# Altium schematic symbol library ICs.SchLib: 23 symbols
Pins are listed as number, name and electrical type; pins without a type are passive.

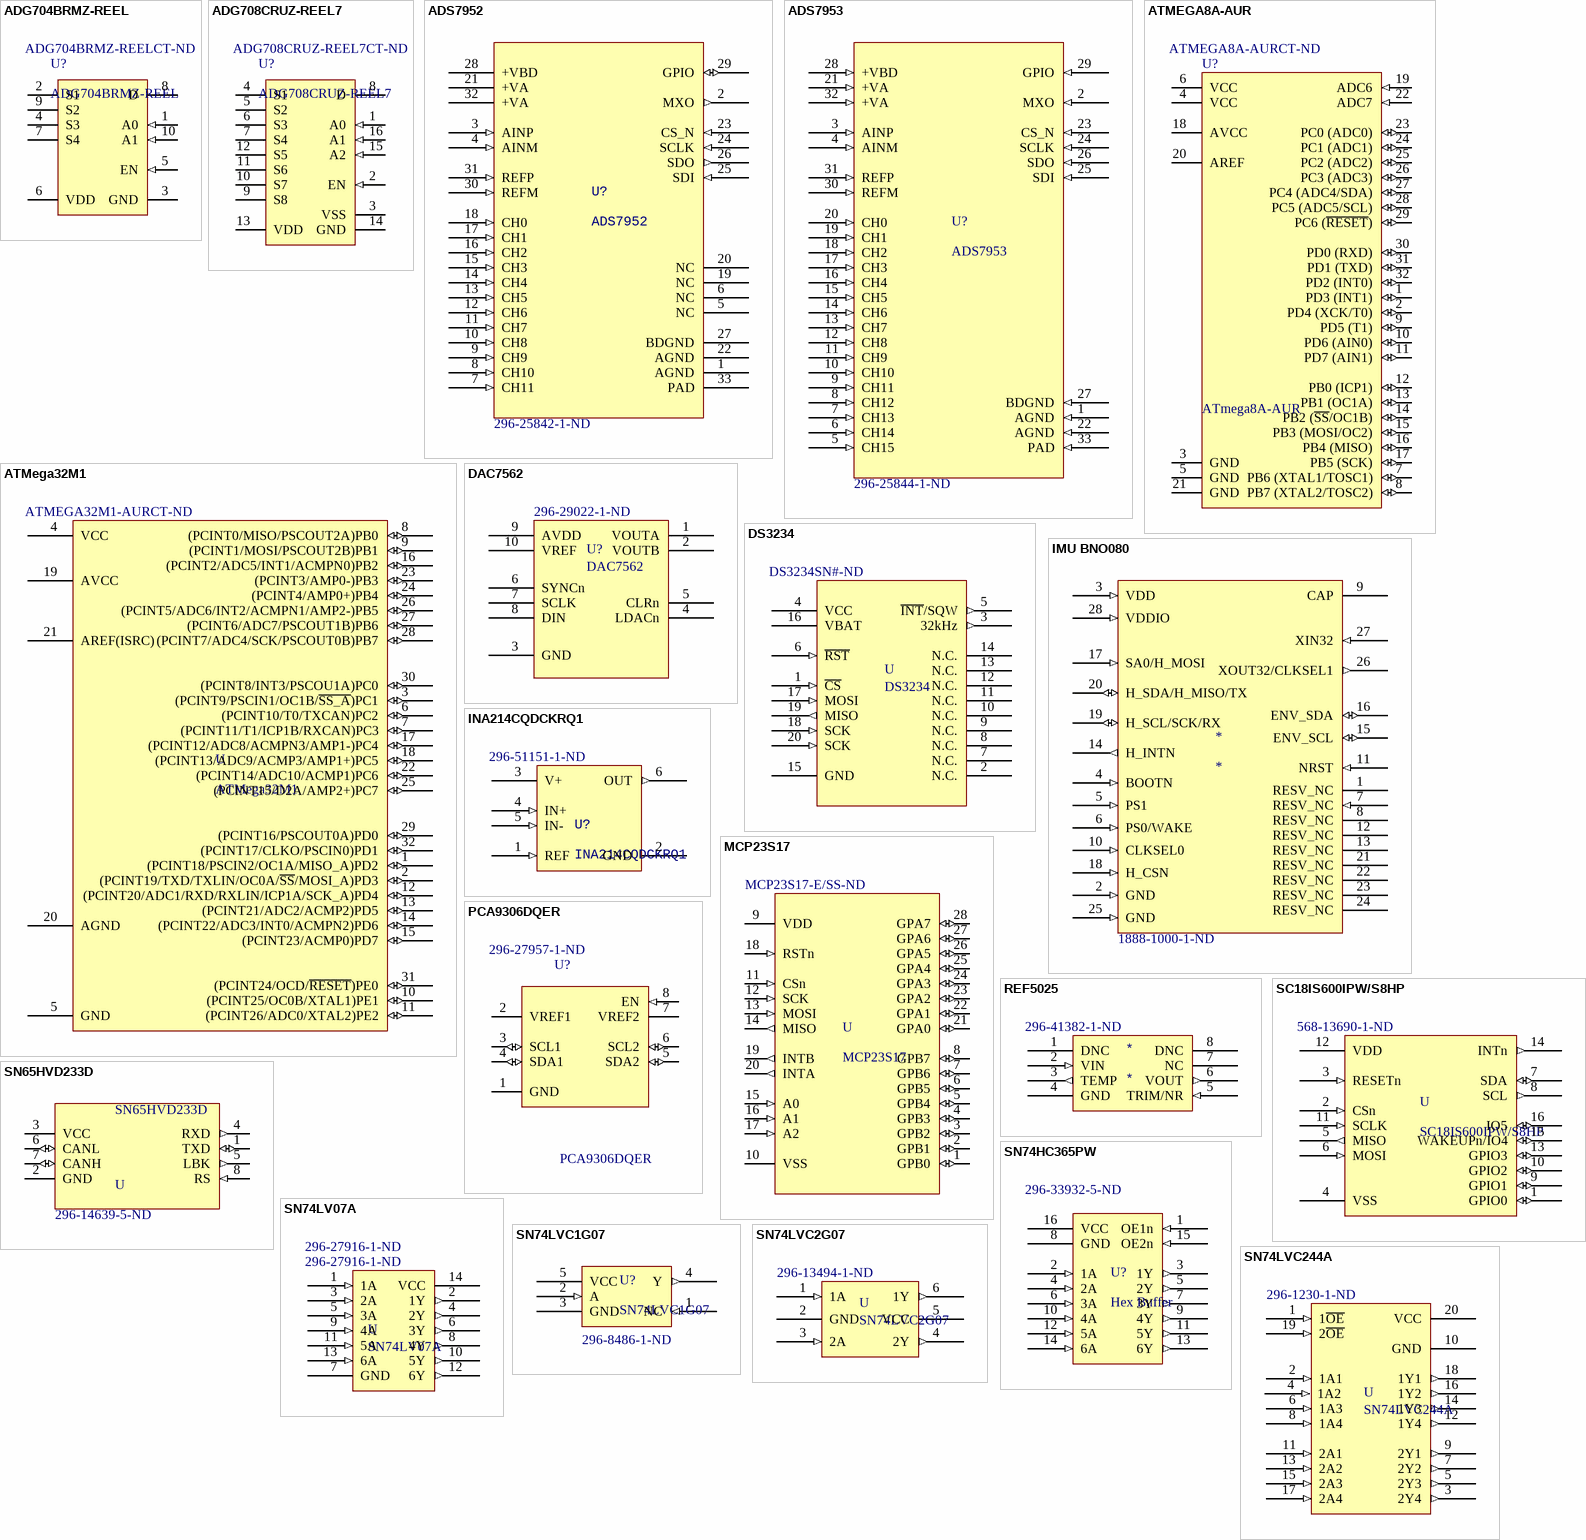
[diagram p0: symbols ADG704BRMZ-REEL to SN74LVC244A]

## ADG704BRMZ-REEL
designator U?  Supplier Part Number 1: ADG704BRMZ-REELCT-ND
CMOS Low Voltage 4 Ohm, 4-Channel Multiplexer, -40 to 85 degC, 10-pin SOP (RM-10), Reel; Manufacturer: Analog Devices; Supply V Guar Performance: Single_(+3.3V), Single_(+3V), Single_(+5V); Bandwidth (Hz): 200M; Max Analog Signal Range: 0 to Vdd; Ron (ohms): 4; PackageVersion: Aug-05; ComponentLink1Description: Manufacturer URL; ComponentLink2Description: Datasheet; ComponentLink3Description: Package Specification; Mounting Technology: Surface Mount; ComponentLink3URL: http://www.analog.com/static/imported-files/packages/PKG_PDF/MSOP%28RM%29/RM_10.pdf; DatasheetVersion: Rev. A; ComponentLink1URL: http://www.analog.com/en/index.html; Code_JEDEC: MO-187-BA; Packing: Reel; PartNumber: ADG704BRMZ-REEL; PackageReference: RM-10; PackageDescription: 10-Pin Mini Small Outline Package, Body 3 x 3 mm, Pitch 0.5 mm; ComponentLink2URL: http://www.analog.com/static/imported-files/data_sheets/ADG704.pdf; Supplier 1: Digi-Key
footprint ADI-RM-10_N (SOP, 10-Leads, Body 3x3mm, Pitch 0.5mm, IPC Medium Density)
pins: 1 A0 (in) "Logic control input.", 2 S1 "Source terminal. May be an input or output.", 3 GND (power) "Ground (0 V) reference.", 4 S3 "Source terminal. May be an input or output.", 5 EN (in) "Logic control input.", 6 VDD (power) "Most positive power supply potential.", 7 S4 "Source terminal. May be an input or output.", 8 D "Drain terminal. May be an input or output.", 9 S2 "Source terminal. May be an input or output.", 10 A1 (in) "Logic control input."

## ADG708CRUZ-REEL7
designator U?  Supplier Part Number 1: ADG708CRUZ-REEL7CT-ND
1.8 to 5.5 V / +/-2.5 V, CMOS Low Voltage 3 Ohm, 8-Channel Multiplexer, -40 to 125 degC, 16-pin SOP (RU-16), Reel; Manufacturer: Analog Devices; Supply V Guar Performance: Dual_(+/-2.5V), Single_(+3V), Single_(+5V); t transition (s): 14n; Bandwidth (Hz): 55M; Max Analog Signal Range: Vss to Vdd; Ron (ohms): 3; PackageVersion: Nov-02; ComponentLink1Description: Manufacturer URL; ComponentLink2Description: Datasheet; ComponentLink3Description: Package Specification; Mounting Technology: Surface Mount; ComponentLink3URL: http:/www.analog.com/static/imported-files/packages/36244347913743854010197452789RU16.pdf; DatasheetVersion: Rev. C; ComponentLink1URL: http://www.analog.com/en/index.html; Code_JEDEC: MO-153AB; Packing: Reel; PartNumber: ADG708CRUZ-REEL7; PackageReference: RU-16; PackageDescription: 16-Pin Thin Shrink Small Outline Package, Body 5 x 4.4 mm, Pitch 0.65 mm; ComponentLink2URL: http://www.analog.com/static/imported-files/data_sheets/ADG708_709.pdf; Supplier 1: Digi-Key
footprint ADI-RU-16_M (SOP, 16-Leads, Body 5x4.4mm, Pitch 0.65mm, IPC Low Density)
pins: 1 A0 (in) "Digital Input. Controls the configuration of the switch, as shown in the truth table (see Table 7).", 2 EN (in) "Digital Input. Controls the configuration of the switch, as shown in the truth table (see Table 7).", 3 VSS (power) "Most Negative Power Supply Pin in Dual-Supply Applications. For single-supply applications, it should be tied to GND.", 4 S1 "Source Terminal. Can be an input or output.", 5 S2 "Source Terminal. Can be an input or output.", 6 S3 "Source Terminal. Can be an input or output.", 7 S4 "Source Terminal. Can be an input or output.", 8 D "Drain Terminal. Can be an input or output.", 9 S8 "Source Terminal. Can be an input or output.", 10 S7 "Source Terminal. Can be an input or output.", 11 S6 "Source Terminal. Can be an input or output.", 12 S5 "Source Terminal. Can be an input or output.", 13 VDD (power) "Most Positive Power Supply Pin.", 14 GND (power) "Ground (0 V) Reference.", 15 A2 (in) "Digital Input. Controls the configuration of the switch, as shown in the truth table (see Table 7).", 16 A1 (in) "Digital Input. Controls the configuration of the switch, as shown in the truth table (see Table 7)."

## ADS7952
designator U?  Supplier Part Number 1: 296-25842-1-ND
12 bit, 12 channel analog-to-digital converter with SPI interface.; Supplier 1: Digi-Key
footprint QFN50P500X500X100-33 (QFN + Pitch P + Body With X Body Length X Height - #Pins)
pins: 1 AGND (power), 2 MXO (out), 3 AINP (in), 4 AINM (in), 5 NC, 6 NC, 7 CH11 (in), 8 CH10 (in), 9 CH9 (in), 10 CH8 (in), 11 CH7 (in), 12 CH6 (in), 13 CH5 (in), 14 CH4 (in), 15 CH3 (in), 16 CH2 (in), 17 CH1 (in), 18 CH0 (in), 19 NC, 20 NC, 21 +VA (power), 22 AGND (power), 23 CS_N (in), 24 SCLK (in), 25 SDI (in), 26 SDO (out), 27 BDGND (power), 28 +VBD (power), 29 GPIO (io), 30 REFM (in), 31 REFP (in), 32 +VA (power), 33 PAD

## ADS7953
designator U?  Supplier Part Number 1: 296-25844-1-ND
12 bit, 16 channel ADC; Supplier 1: Digi-Key
footprint QFN50P500X500X100-33 (QFN + Pitch P + Body With X Body Length X Height - #Pins)
pins: 1 AGND (in), 2 MXO (in), 3 AINP (in), 4 AINM (in), 5 CH15 (in), 6 CH14 (in), 7 CH13 (in), 8 CH12 (in), 9 CH11 (in), 10 CH10 (in), 11 CH9 (in), 12 CH8 (in), 13 CH7 (in), 14 CH6 (in), 15 CH5 (in), 16 CH4 (in), 17 CH3 (in), 18 CH2 (in), 19 CH1 (in), 20 CH0 (in), 21 +VA (in), 22 AGND (in), 23 CS_N (in), 24 SCLK (in), 25 SDI (in), 26 SDO (in), 27 BDGND (in), 28 +VBD (in), 29 GPIO (in), 30 REFM (in), 31 REFP (in), 32 +VA (in), 33 PAD (in)

## ATMEGA8A-AUR
designator U?, comment ATmega8A-AUR  Supplier Part Number 1: ATMEGA8A-AURCT-ND
8-bit AVR Microcontroller, 2.7-5.5V, 16MHz, 8KB Flash, 512 Bytes EEPROM, 1KB SRAM, 32-pin TQFP, Industrial Grade (-40°C to 85°C), Reel; ComponentLink1Description: Manufacturer URL; ComponentLink2Description: ATmega8A Datasheet; DatasheetVersion: revD, Feb-2011; ComponentLink3URL: http://www.atmel.com/dyn/resources/prod_documents/8159S.pdf; ComponentLink3Description: ATmega8A Summary; ComponentLink1URL: http://www.atmel.com/; Code_JEDEC: MS-026-ABA; PackageVersion: revC, Oct-2010; PackageDescription: 32-Lead, 7x7x1.0 mm Body, 0.8mm Lead Pitch, Thin Profile Plastic Quad Flat Package (TQFP); ComponentLink2URL: http://www.atmel.com/dyn/resources/prod_documents/doc8159.pdf; PackageReference: 32A; PartNumber: ATMEGA8A-AUR; Supplier 1: Digi-Key
footprint QFP80P900X900X120-32 (QFN + Pitch P + Body With X Body Length X Height - #Pins)
pins: 1 PD3 (INT1) (io), 2 PD4 (XCK/T0) (io), 3 GND (power), 4 VCC (power), 5 GND (power), 6 VCC (power), 7 PB6 (XTAL1/TOSC1) (io), 8 PB7 (XTAL2/TOSC2) (io), 9 PD5 (T1) (io), 10 PD6 (AIN0) (io), 11 PD7 (AIN1) (io), 12 PB0 (ICP1) (io), 13 PB1 (OC1A) (io), 14 PB2 (~{SS}/OC1B) (io), 15 PB3 (MOSI/OC2) (io), 16 PB4 (MISO) (io), 17 PB5 (SCK) (io), 18 AVCC (power), 19 ADC6 (in), 20 AREF (power), 21 GND (power), 22 ADC7 (in), 23 PC0 (ADC0) (io), 24 PC1 (ADC1) (io), 25 PC2 (ADC2) (io), 26 PC3 (ADC3) (io), 27 PC4 (ADC4/SDA) (io), 28 PC5 (ADC5/SCL) (io), 29 PC6 (~{RESET}) (io), 30 PD0 (RXD) (io), 31 PD1 (TXD) (io), 32 PD2 (INT0) (io)

## ATMega32M1
designator U  Supplier Part Number 1: ATMEGA32M1-AURCT-ND
Atmel 8-bit AVR microcontroller.; Supplier 1: Digi-Key
footprint QFP80P900X900X120-32 (QFN + Pitch P + Body With X Body Length X Height - #Pins)
pins: 1 (PCINT18/PSCIN2/OC1A/MISO_A)PD2 (io), 2 (PCINT19/TXD/TXLIN/OC0A/~{SS}/MOSI_A)PD3 (io), 3 (PCINT9/PSCIN1/OC1B/~{SS_A})PC1 (io), 4 VCC (power), 5 GND (power), 6 (PCINT10/T0/TXCAN)PC2 (io), 7 (PCINT11/T1/ICP1B/RXCAN)PC3 (io), 8 (PCINT0/MISO/PSCOUT2A)PB0 (io), 9 (PCINT1/MOSI/PSCOUT2B)PB1 (io), 10 (PCINT25/OC0B/XTAL1)PE1 (io), 11 (PCINT26/ADC0/XTAL2)PE2 (io), 12 (PCINT20/ADC1/RXD/RXLIN/ICP1A/SCK_A)PD4 (io), 13 (PCINT21/ADC2/ACMP2)PD5 (io), 14 (PCINT22/ADC3/INT0/ACMPN2)PD6 (io), 15 (PCINT23/ACMP0)PD7 (io), 16 (PCINT2/ADC5/INT1/ACMPN0)PB2 (io), 17 (PCINT12/ADC8/ACMPN3/AMP1-)PC4 (io), 18 (PCINT13/ADC9/ACMP3/AMP1+)PC5 (io), 19 AVCC (power), 20 AGND (power), 21 AREF(ISRC) (power), 22 (PCINT14/ADC10/ACMP1)PC6 (io), 23 (PCINT3/AMP0-)PB3 (io), 24 (PCINT4/AMP0+)PB4 (io), 25 (PCINT15/D2A/AMP2+)PC7 (io), 26 (PCINT5/ADC6/INT2/ACMPN1/AMP2-)PB5 (io), 27 (PCINT6/ADC7/PSCOUT1B)PB6 (io), 28 (PCINT7/ADC4/SCK/PSCOUT0B)PB7 (io), 29 (PCINT16/PSCOUT0A)PD0 (io), 30 (PCINT8/INT3/PSCOU1A)PC0 (io), 31 (PCINT24/OCD/~{RESET})PE0 (io), 32 (PCINT17/CLKO/PSCIN0)PD1 (io)

## DAC7562
designator U?  Supplier Part Number 1: 296-29022-1-ND
12-bit, low-power, voltage-output DAC with internal reference.; Supplier 1: Digi-Key
footprint SSOP50P300X300-10N (Footprint is labelled incorrectly, should be SSOP + Pitch P + Nominal Lead Length X Height - #Pins)
pins: 1 VOUTA, 2 VOUTB, 3 GND, 4 LDACn, 5 CLRn, 6 SYNCn, 7 SCLK, 8 DIN, 9 AVDD, 10 VREF

## DS3234
designator U  Supplier Part Number 1: DS3234SN#-ND
SPI bus RTC with integrated crystal and SRAM; Supplier 1: Digi-Key
footprint SOIC127P1032X265-20 (SOIC127P + Nominal Lead Length X Height - Pin #)
pins: 1 ~{CS} (in), 2 N.C., 3 32kHz (out), 4 VCC (power), 5 ~{INT}/SQW (out), 6 ~{RST} (in), 7 N.C., 8 N.C., 9 N.C., 10 N.C., 11 N.C., 12 N.C., 13 N.C., 14 N.C., 15 GND (power), 16 VBAT (power), 17 MOSI (in), 18 SCK (in), 19 MISO (out), 20 SCK (in)

## IMU BNO080
designator *
ACCEL/GYRO/MAG I2C 32BIT
footprint 1888-1000-1-ND
pins: 1 RESV_NC, 2 GND (in), 3 VDD (in), 4 BOOTN (in), 5 PS1 (in), 6 PS0/WAKE (in), 7 RESV_NC (in), 8 RESV_NC, 9 CAP, 10 CLKSEL0 (in), 11 NRST (in), 12 RESV_NC, 13 RESV_NC, 14 H_INTN (out), 15 ENV_SCL (io), 16 ENV_SDA (io), 17 SA0/H_MOSI (in), 18 H_CSN (in), 19 H_SCL/SCK/RX (io), 20 H_SDA/H_MISO/TX (io), 21 RESV_NC, 22 RESV_NC, 23 RESV_NC, 24 RESV_NC, 25 GND (in), 26 XOUT32/CLKSEL1 (out), 27 XIN32 (in), 28 VDDIO (in)
text: 1888-1000-1-ND

## INA214CQDCKRQ1
designator U?  Supplier Part Number 1: 296-51151-1-ND
IC CURR SENSE 1 CIRCUIT SC70-6; Supplier 1: Digi-Key; ComponentLink1Description: Datasheet; ComponentLink1URL: http://www.ti.com/general/docs/suppproductinfo.tsp?distId=10&gotoUrl=http%3A%2F%2Fwww.ti.com%2Flit%2Fgpn%2Fina213-q1
footprint TI-SOT-SC70 (DCK) (IC CURR SENSE 1 CIRCUIT SC70-6)
pins: 1 REF (in), 2 GND (power), 3 V+ (power), 4 IN+ (in), 5 IN- (in), 6 OUT (out)

## MCP23S17
designator U  Supplier Part Number 1: MCP23S17-E/SS-ND
16 bit I/O expander with SPI interface.; Supplier 1: Digi-Key
footprint SOP65P780X200-28N
pins: 1 GPB0 (io), 2 GPB1 (io), 3 GPB2 (io), 4 GPB3 (io), 5 GPB4 (io), 6 GPB5 (io), 7 GPB6 (io), 8 GPB7 (io), 9 VDD (power), 10 VSS (power), 11 CSn (in), 12 SCK (in), 13 MOSI (in), 14 MISO (out), 15 A0 (in), 16 A1 (in), 17 A2 (in), 18 RSTn (in), 19 INTB (out), 20 INTA (out), 21 GPA0 (io), 22 GPA1 (io), 23 GPA2 (io), 24 GPA3 (io), 25 GPA4 (io), 26 GPA5 (io), 27 GPA6 (io), 28 GPA7 (io)

## PCA9306DQER
designator U?  Supplier Part Number 1: 296-27957-1-ND
Dual Bi-Directional I2C-Bus and SMBus Voltage Level-Translator 8-X2SON -40 to 85; MF: Texas Instruments; Price: None; Package: XFDFN-8 Texas Instruments; Availability: Unavailable; MP: PCA9306DQER; SnapEDA_Link: https://www.snapeda.com/parts/PCA9306DQER/Texas%20Instruments/view-part/?ref=snap; Value: *; Supplier 1: Digi-Key
footprint SON35P100X140X40-8N
pins: 1 GND (power), 2 VREF1 (power), 3 SCL1 (io), 4 SDA1 (io), 5 SDA2 (io), 6 SCL2 (io), 7 VREF2 (power), 8 EN (in)

## REF5025
designator *  Supplier Part Number 1: 296-41382-1-ND
Voltage Reference; Supplier 1: Digi-Key
footprint SOP65P300X125-8N (SOP + Pitch P + Lead Span Nominal X Height - #Pins)
pins: 1 DNC, 2 VIN (in), 3 TEMP (out), 4 GND (power), 5 TRIM/NR (in), 6 VOUT (out), 7 NC, 8 DNC

## SC18IS600IPW/S8HP
designator U  Supplier Part Number 1: 568-13690-1-ND
SPI to I2C bridge.; Supplier 1: Digikey
footprint TSOP65P640X110-16N (TSOP, 16-Leads, Body 5.00x4.40mm, Pitch 0.65mm, IPC Medium Density)
pins: 1 GPIO0 (io), 2 CSn (in), 3 RESETn (in), 4 VSS (power), 5 MISO (out), 6 MOSI (in), 7 SDA (io), 8 SCL (out), 9 GPIO1 (io), 10 GPIO2 (io), 11 SCLK (in), 12 VDD (power), 13 GPIO3 (io), 14 INTn (out), 15 WAKEUPn/IO4 (io), 16 IO5 (io)

## SN65HVD233D
designator U  Supplier Part Number 1: 296-14639-5-ND
3.3V CAN Transceiver with Standby Mode, Loop-back 8-SOIC -40 to 125; MF: Texas Instruments; MP: SN65HVD233D; Package: SOIC-8 Texas Instruments; Availability: Good; SnapEDA_Link: https://www.snapeda.com/parts/SN65HVD233D/Texas%20Instruments/view-part/?ref=snap; Price: 2.39 USD; Value: *; Supplier 1: Digi-Key
footprint SOIC127P500X600-8N
pins: 1 TXD (io), 2 GND (power), 3 VCC (power), 4 RXD (out), 5 LBK (out), 6 CANL (io), 7 CANH (io), 8 RS (in)

## SN74HC365PW
designator U?, comment Hex Buffer  Supplier Part Number 1: 296-33932-5-ND
Hex non-inverting buffer with 3-state outputs; Supplier 1: Digi-Key
footprint SOP65P640X120-16N (SOP + Pitch P + Lead Span Nominal X Height - #Pins)
pins: 1 OE1n (in), 2 1A (in), 3 1Y (out), 4 2A (in), 5 2Y (out), 6 3A (in), 7 3Y (out), 8 GND (power), 9 4Y (out), 10 4A (in), 11 5Y (out), 12 5A (in), 13 6Y (out), 14 6A (in), 15 OE2n (in), 16 VCC (power)

## SN74LV07A
designator U  Supplier Part Number: 296-27916-1-ND
Six element 1-bit non-inverting open-drain buffer.; Supplier: Digi-Key; Supplier 1: Digi-Key; Supplier Part Number 1: 296-27916-1-ND
footprint SOP65P640X120-14N
pins: 1 1A (in), 2 1Y (out), 3 2A (in), 4 2Y (out), 5 3A (in), 6 3Y (out), 7 GND (power), 8 4Y (out), 9 4A (in), 10 5Y (out), 11 5A (in), 12 6Y (out), 13 6A (in), 14 VCC (power)

## SN74LVC1G07
designator U?  Supplier Part Number 1: 296-8486-1-ND
Single element non-inverting open drain buffer; Supplier 1: Digi-Key
footprint SOT65P210X110-5N (SOT23, 5-Leads, Body 2.00x2.10mm, Pitch 0.65mm, IPC Medium Density)
pins: 1 NC (in), 2 A (in), 3 GND (power), 4 Y (out), 5 VCC (power)

## SN74LVC2G07
designator U  Supplier Part Number 1: 296-13494-1-ND
Dual Non-Inverting Buffer; Supplier 1: Digi-Key
footprint SOT95P280X145-6N
pins: 1 1A (in), 2 GND (power), 3 2A (in), 4 2Y (out), 5 VCC (power), 6 1Y (out)

## SN74LVC244A
designator U  Supplier Part Number 1: 296-1230-1-ND
Octal buffer or driver with 3-state outputs.; Supplier 1: Digi-Key
footprint SOP65P650X120-20N (SOP + Pitch P + Lead Span Nominal X Height - #Pins)
pins: 1 1~{OE} (in), 2 1A1 (in), 3 2Y4 (out), 4 1A2 (in), 5 2Y3 (out), 6 1A3 (in), 7 2Y2 (out), 8 1A4 (in), 9 2Y1 (out), 10 GND (power), 11 2A1 (in), 12 1Y4 (out), 13 2A2 (in), 14 1Y3 (out), 15 2A3 (in), 16 1Y2 (out), 17 2A4 (in), 18 1Y1 (out), 19 2~{OE} (in), 20 VCC (power)

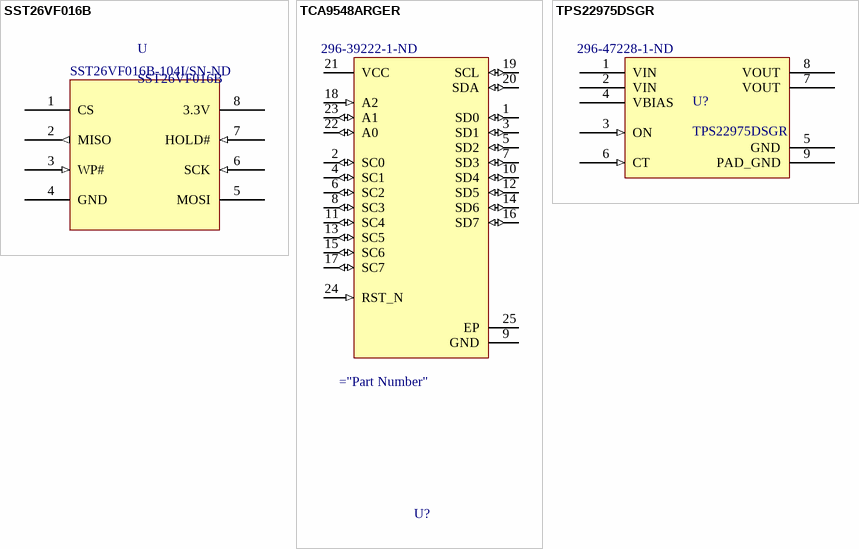
[diagram p1: symbols SST26VF016B to TPS22975DSGR]

## SST26VF016B
designator U  Supplier Part Number 1: SST26VF016B-104I/SN-ND
2.5V/3.0V 16 Mbit Serial Quad I/O (SQI) Flash Memory; ComponentLink1Description: SST25VF016B; ComponentLink1URL: https://www.digikey.ca/product-detail/en/microchip-technology/SST26VF016B-104I-SN/SST26VF016B-104I-SN-ND/5033651; Supplier 1: Digi-Key
footprint SOIC127P500X600-8N
pins: 1 CS, 2 MISO (out), 3 WP# (in), 4 GND (power), 5 MOSI, 6 SCK (in), 7 HOLD# (in), 8 3.3V (power)

## TCA9548ARGER
designator U?  Supplier Part Number 1: 296-39222-1-ND  (hidden comment: TCA9548ARGER)
Supplier 1: Digi-Key
footprint RGE0024C
pins: 1 SD0 (io), 2 SC0 (io), 3 SD1 (io), 4 SC1 (io), 5 SD2 (io), 6 SC2 (io), 7 SD3 (io), 8 SC3 (io), 9 GND (power), 10 SD4 (io), 11 SC4 (io), 12 SD5 (io), 13 SC5 (io), 14 SD6 (io), 15 SC6 (io), 16 SD7 (io), 17 SC7 (io), 18 A2 (in), 19 SCL (io), 20 SDA (io), 21 VCC (power), 22 A0 (io), 23 A1 (io), 24 RST_N (in), 25 EP (power)

## TPS22975DSGR
designator U?  Supplier Part Number 1: 296-47228-1-ND
IC LOAD SWITCH N-CH 6A 8WSON; Supplier 1: Digi-Key; ComponentLink1Description: Datasheet; ComponentLink1URL: http://www.ti.com/general/docs/suppproductinfo.tsp?distId=10&gotoUrl=http%3A%2F%2Fwww.ti.com%2Flit%2Fgpn%2Ftps22975
footprint DSG0008A
pins: 1 VIN (power), 2 VIN (power), 3 ON (in), 4 VBIAS (power), 5 GND (power), 6 CT (in), 7 VOUT (power), 8 VOUT (power), 9 PAD_GND (power)